# EAGLE library part TFM-130-01-L-D-RA (library TFM-130-01-L-D-RA)
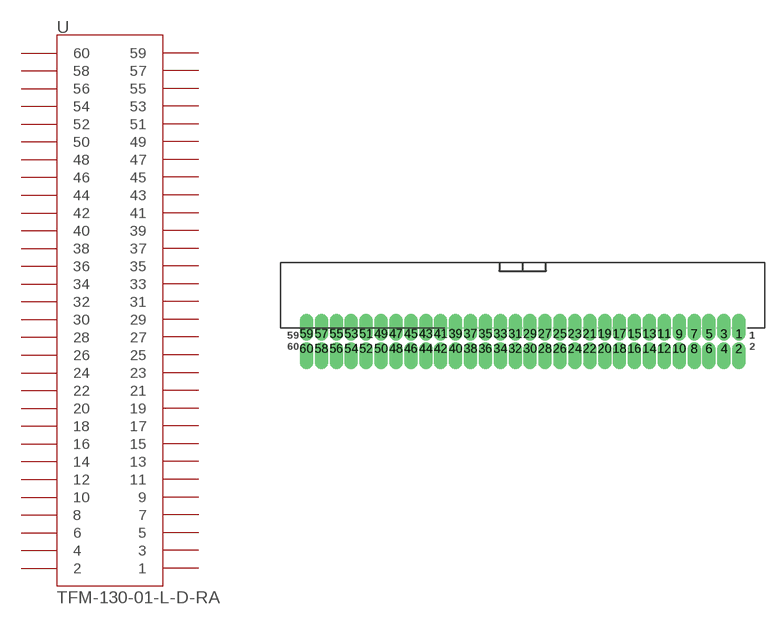
[diagram p0: symbol with the pads of 60_PIN; footprint 60_PIN]

Designator prefix -

## TFM-130-01-L-D-RA  [60_PIN]
1  1
2  2
3  3
4  4
5  5
6  6
7  7
8  8
9  9
10  10
11  11
12  12
13  13
14  14
15  15
16  16
17  17
18  18
19  19
20  20
21  21
22  22
23  23
24  24
25  25
26  26
27  27
28  28
29  29
30  30
31  31
32  32
33  33
34  34
35  35
36  36
37  37
38  38
39  39
40  40
41  41
42  42
43  43
44  44
45  45
46  46
47  47
48  48
49  49
50  50
51  51
52  52
53  53
54  54
55  55
56  56
57  57
58  58
59  59
60  60

## Footprint 60_PIN (pad centres in mm)
drill 0.635 pad 0.965 offset: 1 18.404,-3.286; 2 18.404,-4.556; 3 17.134,-3.286; 4 17.134,-4.556; 5 15.864,-3.286; 6 15.864,-4.556; 7 14.594,-3.286; 8 14.594,-4.556; 9 13.324,-3.286; 10 13.324,-4.556; 11 12.054,-3.286; 12 12.054,-4.556; 13 10.784,-3.286; 14 10.784,-4.556; 15 9.514,-3.286; 16 9.514,-4.556; 17 8.244,-3.286; 18 8.244,-4.556; 19 6.974,-3.286; 20 6.974,-4.556; 21 5.704,-3.286; 22 5.704,-4.556; 23 4.434,-3.286; 24 4.434,-4.556; 25 3.164,-3.286; 26 3.164,-4.556; 27 1.894,-3.286; 28 1.894,-4.556; 29 0.624,-3.286; 30 0.624,-4.556; 31 -0.646,-3.286; 32 -0.646,-4.556; 33 -1.916,-3.286; 34 -1.916,-4.556; 35 -3.186,-3.286; 36 -3.186,-4.556; 37 -4.456,-3.286; 38 -4.456,-4.556; 39 -5.726,-3.286; 40 -5.726,-4.556; 41 -6.996,-3.286; 42 -6.996,-4.556; 43 -8.266,-3.286; 44 -8.266,-4.556; 45 -9.536,-3.286; 46 -9.536,-4.556; 47 -10.806,-3.286; 48 -10.806,-4.556; 49 -12.076,-3.286; 50 -12.076,-4.556; 51 -13.346,-3.286; 52 -13.346,-4.556; 53 -14.616,-3.286; 54 -14.616,-4.556; 55 -15.886,-3.286; 56 -15.886,-4.556; 57 -17.156,-3.286; 58 -17.156,-4.556; 59 -18.426,-3.286; 60 -18.426,-4.556